# Altium footprint library TC358748XBG.PcbLib: 3 footprints
Each footprint in its own frame and in the unit in brackets; x right, y up, seen from the top. Pads: shape width x height; smd on the part's side, far side on the other; paste and mask are expansions set on the pad; w line width, h text height; cw(c..) or ccw(c..) is an arc to the next point about the centre after c.
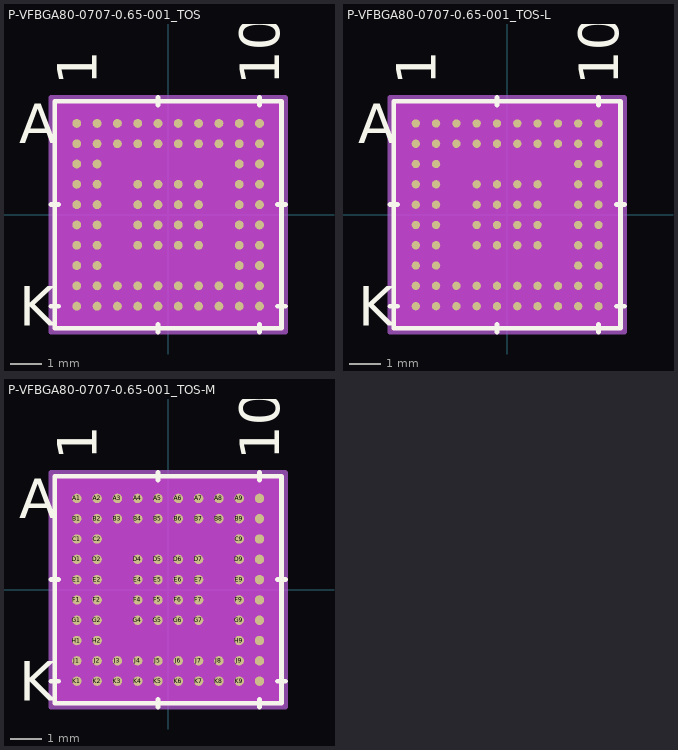
[diagram p0: the footprints below, top view; thin cyan lines are the x and y axes]

## P-VFBGA80-0707-0.65-001_TOS [mm]
pads (80):
  round 0.284 smd paste+0 mask+0: A1(-2.925,2.925) A2(-2.275,2.925) A3(-1.625,2.925) A4(-0.975,2.925) A5(-0.325,2.925) A6(0.325,2.925) A7(0.975,2.925) A8(1.625,2.925) A9(2.275,2.925) A10(2.925,2.925) B1(-2.925,2.275) B2(-2.275,2.275) B3(-1.625,2.275) B4(-0.975,2.275) B5(-0.325,2.275) B6(0.325,2.275) B7(0.975,2.275) B8(1.625,2.275) B9(2.275,2.275) B10(2.925,2.275) C1(-2.925,1.625) C2(-2.275,1.625) C9(2.275,1.625) C10(2.925,1.625) D1(-2.925,0.975) D2(-2.275,0.975) D4(-0.975,0.975) D5(-0.325,0.975) D6(0.325,0.975) D7(0.975,0.975) D9(2.275,0.975) D10(2.925,0.975) E1(-2.925,0.325) E2(-2.275,0.325) E4(-0.975,0.325) E5(-0.325,0.325) E6(0.325,0.325) E7(0.975,0.325) E9(2.275,0.325) E10(2.925,0.325) F1(-2.925,-0.325) F2(-2.275,-0.325) F4(-0.975,-0.325) F5(-0.325,-0.325) F6(0.325,-0.325) F7(0.975,-0.325) F9(2.275,-0.325) F10(2.925,-0.325) G1(-2.925,-0.975) G2(-2.275,-0.975) G4(-0.975,-0.975) G5(-0.325,-0.975) G6(0.325,-0.975) G7(0.975,-0.975) G9(2.275,-0.975) G10(2.925,-0.975) H1(-2.925,-1.625) H2(-2.275,-1.625) H9(2.275,-1.625) H10(2.925,-1.625) J1(-2.925,-2.275) J2(-2.275,-2.275) J3(-1.625,-2.275) J4(-0.975,-2.275) J5(-0.325,-2.275) J6(0.325,-2.275) J7(0.975,-2.275) J8(1.625,-2.275) J9(2.275,-2.275) J10(2.925,-2.275) K1(-2.925,-2.925) K2(-2.275,-2.925) K3(-1.625,-2.925) K4(-0.975,-2.925) K5(-0.325,-2.925) K6(0.325,-2.925) K7(0.975,-2.925) K8(1.625,-2.925) K9(2.275,-2.925) K10(2.925,-2.925)
Top Overlay:
  lines w0.152: -3.759,-2.925 -3.505,-2.925 ; -3.759,0.325 -3.505,0.325 ; -0.325,-3.759 -0.325,-3.505 ; -0.325,3.505 -0.325,3.759 ; 2.925,-3.759 2.925,-3.505 ; 2.925,3.505 2.925,3.759 ; 3.505,-2.925 3.759,-2.925 ; 3.505,0.325 3.759,0.325 ; -3.632,-3.632 3.632,-3.632 3.632,3.632 -3.632,3.632 -3.632,-3.632
  text "A" at -4.775,2.29 h1.27
  text "K" at -4.775,-3.56 h1.27
  text "1" at -2.29,4.14 h1.27
  text "10" at 3.56,4.14 h1.27
Bottom Overlay:
  text "A" at -4.14,2.29 h1.27
  text "K" at -4.14,-3.56 h1.27
  text "1" at -3.56,4.14 h1.27
  text "10" at 2.29,4.14 h1.27
Keep-Out Layer:
  region: -3.694,-3.694 -3.694,3.694 3.694,3.694 3.694,-3.694
Mechanical 13:
  lines w0.025: -3.505,3.18 -3.18,3.505 ; -3.505,-3.505 3.505,-3.505 3.505,3.505 -3.505,3.505 -3.505,-3.505
  text "A" at -4.775,2.29 h1.27
  text "K" at -4.775,-3.56 h1.27
  text "1" at -2.29,4.14 h1.27
  text "10" at 3.56,4.14 h1.27
Mechanical 15:
  region: 3.759,-3.759 -3.759,-3.759 -3.759,3.759 3.759,3.759
  lines w0.152: -3.759,-3.759 -3.759,3.759 3.759,3.759 3.759,-3.759 -3.759,-3.759
3D body "P-VFBGA80-0707-065-001_TOS.step": height 0.99, standoff 0, extent -3.505,-3.505 3.505,3.505

## P-VFBGA80-0707-0.65-001_TOS-L [mm]
pads (80):
  round 0.267 smd paste+0 mask+0: A1(-2.925,2.925) A2(-2.275,2.925) A3(-1.625,2.925) A4(-0.975,2.925) A5(-0.325,2.925) A6(0.325,2.925) A7(0.975,2.925) A8(1.625,2.925) A9(2.275,2.925) A10(2.925,2.925) B1(-2.925,2.275) B2(-2.275,2.275) B3(-1.625,2.275) B4(-0.975,2.275) B5(-0.325,2.275) B6(0.325,2.275) B7(0.975,2.275) B8(1.625,2.275) B9(2.275,2.275) B10(2.925,2.275) C1(-2.925,1.625) C2(-2.275,1.625) C9(2.275,1.625) C10(2.925,1.625) D1(-2.925,0.975) D2(-2.275,0.975) D4(-0.975,0.975) D5(-0.325,0.975) D6(0.325,0.975) D7(0.975,0.975) D9(2.275,0.975) D10(2.925,0.975) E1(-2.925,0.325) E2(-2.275,0.325) E4(-0.975,0.325) E5(-0.325,0.325) E6(0.325,0.325) E7(0.975,0.325) E9(2.275,0.325) E10(2.925,0.325) F1(-2.925,-0.325) F2(-2.275,-0.325) F4(-0.975,-0.325) F5(-0.325,-0.325) F6(0.325,-0.325) F7(0.975,-0.325) F9(2.275,-0.325) F10(2.925,-0.325) G1(-2.925,-0.975) G2(-2.275,-0.975) G4(-0.975,-0.975) G5(-0.325,-0.975) G6(0.325,-0.975) G7(0.975,-0.975) G9(2.275,-0.975) G10(2.925,-0.975) H1(-2.925,-1.625) H2(-2.275,-1.625) H9(2.275,-1.625) H10(2.925,-1.625) J1(-2.925,-2.275) J2(-2.275,-2.275) J3(-1.625,-2.275) J4(-0.975,-2.275) J5(-0.325,-2.275) J6(0.325,-2.275) J7(0.975,-2.275) J8(1.625,-2.275) J9(2.275,-2.275) J10(2.925,-2.275) K1(-2.925,-2.925) K2(-2.275,-2.925) K3(-1.625,-2.925) K4(-0.975,-2.925) K5(-0.325,-2.925) K6(0.325,-2.925) K7(0.975,-2.925) K8(1.625,-2.925) K9(2.275,-2.925) K10(2.925,-2.925)
Top Overlay:
  lines w0.152: -3.759,-2.925 -3.505,-2.925 ; -3.759,0.325 -3.505,0.325 ; -0.325,-3.759 -0.325,-3.505 ; -0.325,3.505 -0.325,3.759 ; 2.925,-3.759 2.925,-3.505 ; 2.925,3.505 2.925,3.759 ; 3.505,-2.925 3.759,-2.925 ; 3.505,0.325 3.759,0.325 ; -3.632,-3.632 3.632,-3.632 3.632,3.632 -3.632,3.632 -3.632,-3.632
  text "A" at -4.775,2.29 h1.27
  text "K" at -4.775,-3.56 h1.27
  text "1" at -2.29,4.14 h1.27
  text "10" at 3.56,4.14 h1.27
Bottom Overlay:
  text "A" at -4.14,2.29 h1.27
  text "K" at -4.14,-3.56 h1.27
  text "1" at -3.56,4.14 h1.27
  text "10" at 2.29,4.14 h1.27
Keep-Out Layer:
  region: -3.694,-3.694 -3.694,3.694 3.694,3.694 3.694,-3.694
Mechanical 13:
  lines w0.025: -3.505,3.18 -3.18,3.505 ; -3.505,-3.505 3.505,-3.505 3.505,3.505 -3.505,3.505 -3.505,-3.505
  text "A" at -4.775,2.29 h1.27
  text "K" at -4.775,-3.56 h1.27
  text "1" at -2.29,4.14 h1.27
  text "10" at 3.56,4.14 h1.27
Mechanical 15:
  region: 3.759,-3.759 -3.759,-3.759 -3.759,3.759 3.759,3.759
  lines w0.152: -3.759,-3.759 -3.759,3.759 3.759,3.759 3.759,-3.759 -3.759,-3.759
3D body: height 0.25, standoff 0, extent 0,0 0.254,0.254

## P-VFBGA80-0707-0.65-001_TOS-M [mm]
pads (80):
  round 0.302 smd paste+0 mask+0: A1(-2.925,2.925) A2(-2.275,2.925) A3(-1.625,2.925) A4(-0.975,2.925) A5(-0.325,2.925) A6(0.325,2.925) A7(0.975,2.925) A8(1.625,2.925) A9(2.275,2.925) A10(2.925,2.925) B1(-2.925,2.275) B2(-2.275,2.275) B3(-1.625,2.275) B4(-0.975,2.275) B5(-0.325,2.275) B6(0.325,2.275) B7(0.975,2.275) B8(1.625,2.275) B9(2.275,2.275) B10(2.925,2.275) C1(-2.925,1.625) C2(-2.275,1.625) C9(2.275,1.625) C10(2.925,1.625) D1(-2.925,0.975) D2(-2.275,0.975) D4(-0.975,0.975) D5(-0.325,0.975) D6(0.325,0.975) D7(0.975,0.975) D9(2.275,0.975) D10(2.925,0.975) E1(-2.925,0.325) E2(-2.275,0.325) E4(-0.975,0.325) E5(-0.325,0.325) E6(0.325,0.325) E7(0.975,0.325) E9(2.275,0.325) E10(2.925,0.325) F1(-2.925,-0.325) F2(-2.275,-0.325) F4(-0.975,-0.325) F5(-0.325,-0.325) F6(0.325,-0.325) F7(0.975,-0.325) F9(2.275,-0.325) F10(2.925,-0.325) G1(-2.925,-0.975) G2(-2.275,-0.975) G4(-0.975,-0.975) G5(-0.325,-0.975) G6(0.325,-0.975) G7(0.975,-0.975) G9(2.275,-0.975) G10(2.925,-0.975) H1(-2.925,-1.625) H2(-2.275,-1.625) H9(2.275,-1.625) H10(2.925,-1.625) J1(-2.925,-2.275) J2(-2.275,-2.275) J3(-1.625,-2.275) J4(-0.975,-2.275) J5(-0.325,-2.275) J6(0.325,-2.275) J7(0.975,-2.275) J8(1.625,-2.275) J9(2.275,-2.275) J10(2.925,-2.275) K1(-2.925,-2.925) K2(-2.275,-2.925) K3(-1.625,-2.925) K4(-0.975,-2.925) K5(-0.325,-2.925) K6(0.325,-2.925) K7(0.975,-2.925) K8(1.625,-2.925) K9(2.275,-2.925) K10(2.925,-2.925)
Top Overlay:
  lines w0.152: -3.759,-2.925 -3.505,-2.925 ; -3.759,0.325 -3.505,0.325 ; -0.325,-3.759 -0.325,-3.505 ; -0.325,3.505 -0.325,3.759 ; 2.925,-3.759 2.925,-3.505 ; 2.925,3.505 2.925,3.759 ; 3.505,-2.925 3.759,-2.925 ; 3.505,0.325 3.759,0.325 ; -3.632,-3.632 3.632,-3.632 3.632,3.632 -3.632,3.632 -3.632,-3.632
  text "A" at -4.775,2.29 h1.27
  text "K" at -4.775,-3.56 h1.27
  text "1" at -2.29,4.14 h1.27
  text "10" at 3.56,4.14 h1.27
Bottom Overlay:
  text "A" at -4.14,2.29 h1.27
  text "K" at -4.14,-3.56 h1.27
  text "1" at -3.56,4.14 h1.27
  text "10" at 2.29,4.14 h1.27
Keep-Out Layer:
  region: -3.694,-3.694 -3.694,3.694 3.694,3.694 3.694,-3.694
Mechanical 13:
  lines w0.025: -3.505,3.18 -3.18,3.505 ; -3.505,-3.505 3.505,-3.505 3.505,3.505 -3.505,3.505 -3.505,-3.505
  text "A" at -4.775,2.29 h1.27
  text "K" at -4.775,-3.56 h1.27
  text "1" at -2.29,4.14 h1.27
  text "10" at 3.56,4.14 h1.27
Mechanical 15:
  region: 3.759,-3.759 -3.759,-3.759 -3.759,3.759 3.759,3.759
  lines w0.152: -3.759,-3.759 -3.759,3.759 3.759,3.759 3.759,-3.759 -3.759,-3.759
3D body: height 0.25, standoff 0, extent 0,0 0.254,0.254